# Altium schematic symbol library ESQ-126-39-G-D_GOST.SchLib: 1 symbol
Pins are listed as number, name and electrical type; pins without a type are passive.

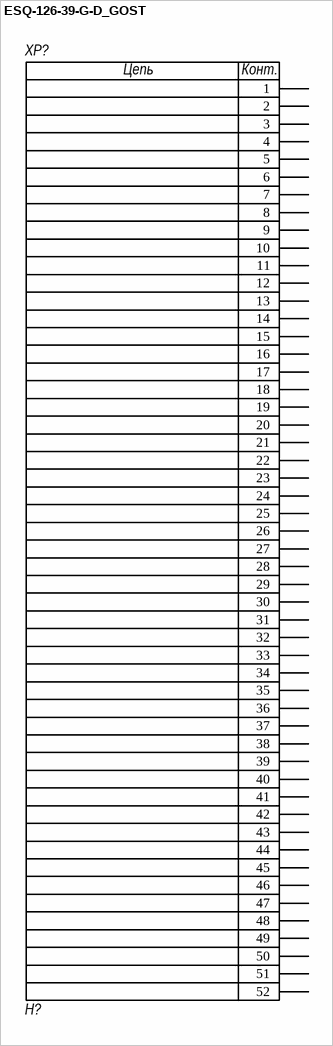
[diagram p0: symbol ESQ-126-39-G-D_GOST]

## ESQ-126-39-G-D_GOST
designator XP?, comment H?
Потребление, Вт: 0,00; Наименование: ESQ-126-39-G-D; Назначение: Сквозной разъем, двойно, 52 контакта, шаг 2,54 мм
footprint ESQ-126-39-G-D (.100" PC/10 Elevated Socket Strip)
pins: 1, 2, 3, 4, 5, 6, 7, 8, 9, 10, 11, 12, 13, 14, 15, 16, 17, 18, 19, 20, 21, 22, 23, 24, 25, 26, 27, 28, 29, 30, 31, 32, 33, 34, 35, 36, 37, 38, 39, 40, 41, 42, 43, 44, 45, 46, 47, 48, 49, 50, 51, 52
text: Цепь; Конт.